# Altium schematic symbol library MCU_Cortex_M4_lib.SchLib: 18 symbols (part 2 of 2)
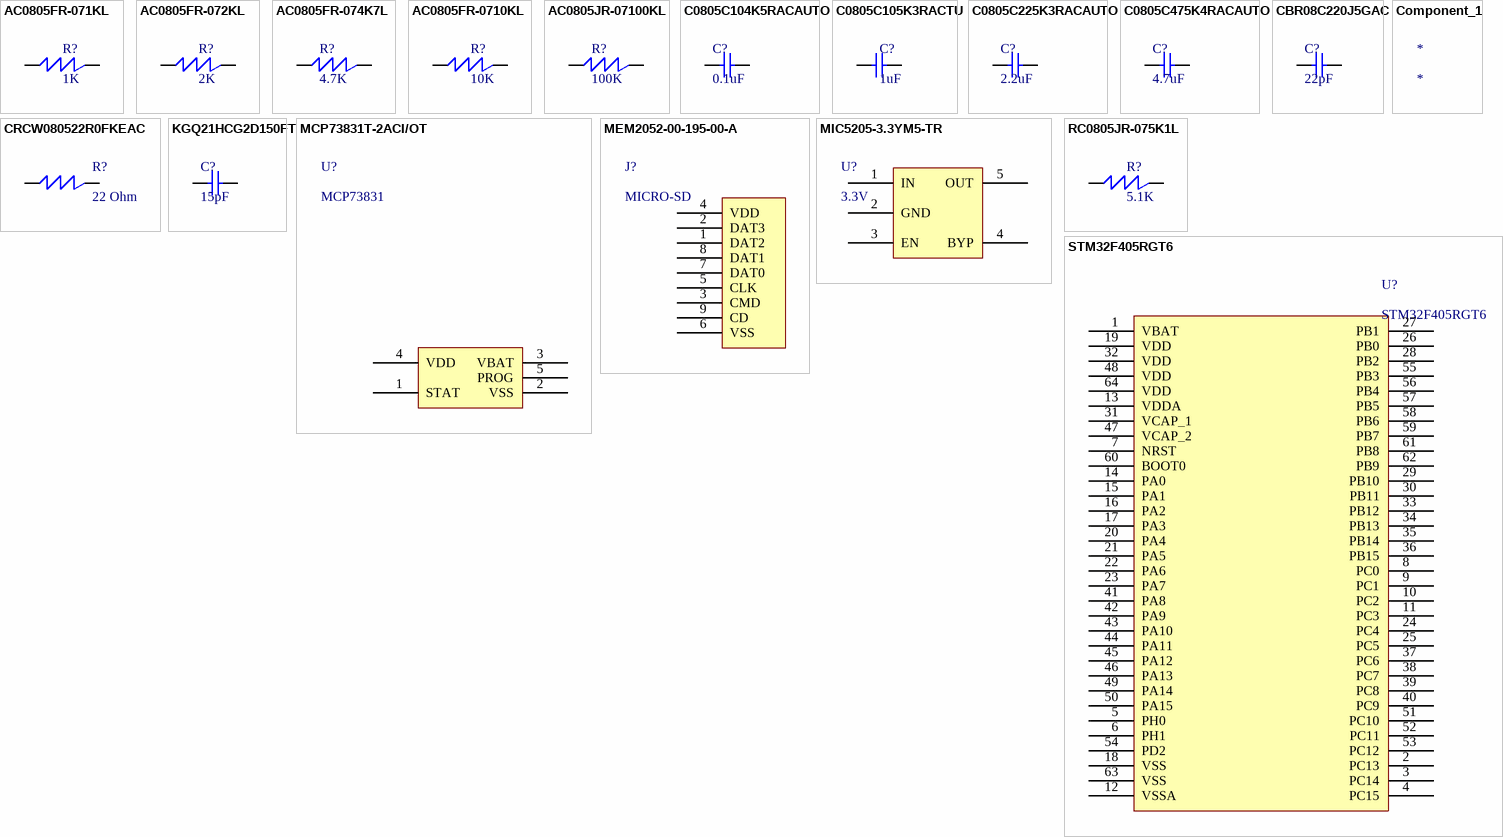
[diagram p1: symbols AC0805FR-071KL to STM32F405RGT6]

## CRCW080522R0FKEAC
designator R?, comment 22 Ohm
Res Thick Film 0805 22 Ohm 1% 0.125W(1/8W) ±100ppm/C Pad SMD T/R; Manufacturer: Vishay; Manufacturer Part Number: CRCW080522R0FKEAC; Power Rating: 125mW; Value: 22Ω; Temperature Coefficient: 100ppm/°C; Working Voltage: 150V; Supplier: Arrow Electronics; Supplier Part Number: CRCW080522R0FKEAC; RoHS: Compliant; Category: Chip SMD Resistors; Stock: 43113; Pricing: 521=0,0125, 1000=0,0113, 5000=0,0068, 10000=0,0054 (USD); Case/Package: 0805; China RoHS: Non-Compliant; Composition: Thick Film; Height: 500µm; Lead Free: Lead Free; Length: 2mm; Lifecycle Status: Production; Max Operating Temperature: 155°C; Min Operating Temperature: -55°C; Mounting Technology: Surface Mount; Number of Terminals: 2; REACH SVHC: Yes; Schedule B: 8533210045, 8533210045|8533210045|8533210045|8533210045|8533210045; Tolerance: 1%; Width: 1.25mm; ComponentLink1URL: https://datasheet.octopart.com:443/CRCW080522R0FKEAC-Vishay-datasheet-175423585.pdf?src-supplier=IHS; ComponentLink1Description: https://datasheet.octopart.com:443/CRCW080522R0FKEAC-Vishay-datasheet-175423585.pdf?src-supplier=IHS; ComponentLink2URL: https://datasheet.octopart.com:443/CRCW080522R0FKEAC-Vishay-datasheet-102570912.pdf?src-supplier=Future+Electronics; ComponentLink2Description: https://datasheet.octopart.com:443/CRCW080522R0FKEAC-Vishay-datasheet-102570912.pdf?src-supplier=Future+Electronics; ComponentLink3URL: https://datasheet.octopart.com:443/CRCW080522R0FKEAC-Vishay-datasheet-62316122.pdf?src-supplier=Future+Electronics; ComponentLink3Description: https://datasheet.octopart.com:443/CRCW080522R0FKEAC-Vishay-datasheet-62316122.pdf?src-supplier=Future+Electronics; ComponentLink4URL: http://sigma.octopart.com:80/rohs_statement/Vishay-company-15.pdf?src-supplier=Compliance+Statements; ComponentLink4Description: http://sigma.octopart.com:80/rohs_statement/Vishay-company-15.pdf?src-supplier=Compliance+Statements
pins: 1, 2

## KGQ21HCG2D150FT
designator C?, comment 15pF
Ceramic Capacitor, Multilayer, Ceramic, 200V, 1% +Tol, 1% -Tol, C0G, 30ppm/Cel TC, 0.000015uF, Surface Mount, 0805; Manufacturer: KYOCERA AVX; Manufacturer Part Number: KGQ21HCG2D150FT; Supplier: DigiKey; Supplier Part Number: 478-KGQ21HCG2D150FTCT-ND; RoHS: Compliant; Category: Ceramic Capacitors; Stock: 657; Pricing: 1=0,55, 10=0,334, 50=0,2502, 100=0,2244, 500=0,18094 (USD); Value: 15pF; Case/Package: 0805; Dielectric: C0G; Dielectric Material: Ceramic; Export Control Classification Number (ECCN) Code: EAR99; Height: 1.15mm; Harmonized Tariff Schedule (HTS) Code: 8532.24.00.20; Introduction Date: 2023-02-08; Length: 2.01mm; Lifecycle Status: Production; Max Operating Temperature: 125°C; Min Operating Temperature: -55°C; Mounting Technology: Surface Mount; Number of Terminals: 2; REACH SVHC: Yes; Tolerance: 1%; Voltage Rating (DC): 200V; Width: 1.25mm; ComponentLink1URL: https://datasheet.octopart.com:443/KGQ21HCG2D150FT-KYOCERA-AVX-datasheet-182064323.pdf?src-supplier=IHS; ComponentLink1Description: https://datasheet.octopart.com:443/KGQ21HCG2D150FT-KYOCERA-AVX-datasheet-182064323.pdf?src-supplier=IHS; ComponentLink2URL: https://datasheet.octopart.com:443/KGQ21HCG2D150FT-KYOCERA-AVX-datasheet-179178381.pdf?src-supplier=TME; ComponentLink2Description: https://datasheet.octopart.com:443/KGQ21HCG2D150FT-KYOCERA-AVX-datasheet-179178381.pdf?src-supplier=TME
pins: 1, 2

## MCP73831T-2ACI/OT
designator U?, comment MCP73831
MCP73831 Series Single-Cell Li-Ion/Li-Polymer Battery Charge Controller SOT-23-5; Manufacturer: Microchip; Manufacturer Part Number: MCP73831T-2ACI/OT; Manufacturer Lifecycle Status: REL; Drain to Source Resistance: 350mΩ; Max Charge Current: 500mA; Max Supply Voltage: 6V; Max Junction Temperature (Tj): 125°C; Max Output Voltage: 4.5V; Max Power Dissipation: 1.54W; Min Output Voltage: 4.168V; Min Supply Voltage: 3.75V; Number of Cells: 1; Output Voltage: 4.2V; Voltage Rating: 4.534V; Supplier: Avnet; Supplier Part Number: MCP73831T-2ACI/OT; RoHS: Compliant; Category: Battery Management; Stock: 21000; Pricing: 3000=0,66216, 6000=0,64901, 12000=0,63969, 24000=0,63063, 48000=0,6125 (USD); Projected EOL Date: 2034-11-03; Ambient Temperature Range High: 85°C; Case/Package: SOT-23; Contact Plating: Tin; Country of Assembly: Thailand; Country of Fabrication: United States of America; Country of Origin: Thailand; Export Control Classification Number (ECCN) Code: EAR99; Height: 1.45mm; HS Code: 8542.39.0090; Harmonized Tariff Schedule (HTS) Code: 8542.39.0060; Introduction Date: 2005-11-03; Length: 3.0988mm; Lifecycle Status: Production; Max Operating Temperature: 85°C; Min Operating Temperature: -40°C; Mounting Technology: Surface Mount; Nominal Supply Voltage: 6V; Number of Channels: 1; Number of Outputs: 1; Pins: 5; Output Current: 500mA; Packaging: Cut Tape; Radiation Hardening: No; REACH SVHC: Unaffected; Schedule B: 8542390000, 8542390000|8542390000|8542390000|8542390000|8542390000; Termination: SMD/SMT; Weight: 200.998119mg; Width: 1.8034mm; ComponentLink1URL: https://datasheet.octopart.com:443/MCP73831T-2ACI-OT-Microchip-datasheet-8814540.pdf?src-supplier=element14+APAC; ComponentLink1Description: https://datasheet.octopart.com:443/MCP73831T-2ACI-OT-Microchip-datasheet-8814540.pdf?src-supplier=element14+APAC; ComponentLink2URL: https://datasheet.octopart.com:443/MCP73831T-2ACI-OT-Microchip-datasheet-145017548.pdf?src-supplier=Microchip; ComponentLink2Description: https://datasheet.octopart.com:443/MCP73831T-2ACI-OT-Microchip-datasheet-145017548.pdf?src-supplier=Microchip; ComponentLink3URL: https://datasheet.octopart.com:443/MCP73831T-2ACI-OT-Microchip-datasheet-34193478.pdf?src-supplier=Farnell; ComponentLink3Description: https://datasheet.octopart.com:443/MCP73831T-2ACI-OT-Microchip-datasheet-34193478.pdf?src-supplier=Farnell; ComponentLink4URL: https://datasheet.octopart.com:443/MCP73831T-2ACI-OT-Microchip-datasheet-16123459.pdf?src-supplier=LKR; ComponentLink4Description: https://datasheet.octopart.com:443/MCP73831T-2ACI-OT-Microchip-datasheet-16123459.pdf?src-supplier=LKR; ComponentLink5URL: https://datasheet.octopart.com:443/MCP73831T-2ACI-OT-Microchip-datasheet-142675560.pdf?src-supplier=TME; ComponentLink5Description: https://datasheet.octopart.com:443/MCP73831T-2ACI-OT-Microchip-datasheet-142675560.pdf?src-supplier=TME; ComponentLink6URL: https://datasheet.octopart.com:443/MCP73831T-2ACI-OT-Microchip-datasheet-158592061.pdf?src-supplier=SHENGYU+ELECTRONICS; ComponentLink6Description: https://datasheet.octopart.com:443/MCP73831T-2ACI-OT-Microchip-datasheet-158592061.pdf?src-supplier=SHENGYU+ELECTRONICS; ComponentLink7URL: https://datasheet.octopart.com/MCP73831T-2ACI-OT-Microchip-datasheet-16593012.pdf; ComponentLink7Description: https://datasheet.octopart.com/MCP73831T-2ACI-OT-Microchip-datasheet-16593012.pdf; ComponentLink8URL: https://datasheet.octopart.com:443/MCP73831T-2ACI-OT-Microchip-datasheet-7127743.pdf?src-supplier=Newark; ComponentLink8Description: https://datasheet.octopart.com:443/MCP73831T-2ACI-OT-Microchip-datasheet-7127743.pdf?src-supplier=Newark; ComponentLink9URL: https://datasheet.octopart.com:443/MCP73831T-2ACIOT-Microchip-datasheet-39874.pdf?src-supplier=RS+(Formerly+Allied+Electronics); ComponentLink9Description: https://datasheet.octopart.com:443/MCP73831T-2ACIOT-Microchip-datasheet-39874.pdf?src-supplier=RS+(Formerly+Allied+Electronics); ComponentLink10URL: http://sigma.octopart.com:80/188449423/materials_sheet/Microchip-MCP73831T-2ACI-OT.pdf?src-supplier=Compliance+Statements; ComponentLink10Description: http://sigma.octopart.com:80/188449423/materials_sheet/Microchip-MCP73831T-2ACI-OT.pdf?src-supplier=Compliance+Statements; ComponentLink11URL: http://sigma.octopart.com:80/192856963/materials_sheet/Microchip-MCP73831T-2ACI-OT.pdf?src-supplier=Compliance+Statements; ComponentLink11Description: http://sigma.octopart.com:80/192856963/materials_sheet/Microchip-MCP73831T-2ACI-OT.pdf?src-supplier=Compliance+Statements; ComponentLink12URL: http://sigma.octopart.com:80/rohs_statement/Microchip-company-71.pdf?src-supplier=Compliance+Statements; ComponentLink12Description: http://sigma.octopart.com:80/rohs_statement/Microchip-company-71.pdf?src-supplier=Compliance+Statements; ComponentLink13URL: http://sigma.octopart.com:80/reach_statement/Microchip-company-70.pdf?src-supplier=Compliance+Statements; ComponentLink13Description: http://sigma.octopart.com:80/reach_statement/Microchip-company-70.pdf?src-supplier=Compliance+Statements; ComponentLink14URL: http://sigma.octopart.com:80/conflict_mineral_statement/Microchip-company-69.pdf?src-supplier=Compliance+Statements; ComponentLink14Description: http://sigma.octopart.com:80/conflict_mineral_statement/Microchip-company-69.pdf?src-supplier=Compliance+Statements; ComponentLink15URL: http://sigma.octopart.com:80/conflict_mineral_statement/Microchip-company-68.pdf?src-supplier=Compliance+Statements; ComponentLink15Description: http://sigma.octopart.com:80/conflict_mineral_statement/Microchip-company-68.pdf?src-supplier=Compliance+Statements
pins: 1 STAT, 2 VSS, 3 VBAT, 4 VDD, 5 PROG

## MEM2052-00-195-00-A
designator J?, comment MICRO-SD
Memory Card Connectors Micro SD Push Push, Normaly open, SMT, 1.95mm profile, No Peg,; Manufacturer: Global Connector Technology; Manufacturer Part Number: MEM2052-00-195-00-A; Contact Resistance: 100mΩ; Current Rating: 500mA; Dielectric Material: Liquid Crystal Polymer; Gender: Female; Insulation Resistance: 1GΩ; Number of Positions: 9; Pitch: 1.0922mm; Supplier: Future Electronics; Supplier Part Number: MEM2052-00-195-00-A; RoHS: Compliant; Category: Card Edge Connectors; Stock: 33000; Pricing: 1000=0,54, 2000=0,535, 3000=0,525 (USD); China RoHS: Compliant; Country of Origin: Mainland China; Export Control Classification Number (ECCN) Code: EAR99; Harmonized Tariff Schedule (HTS) Code: 8536.69.40.40; Insulation Color: Black; Introduction Date: 2022-11-23; Lifecycle Status: Production; Max Operating Temperature: 85°C; Min Operating Temperature: -40°C; Pins: 8; Number of Rows: 1; Orientation: Right Angle; REACH SVHC: Unaffected; Terminal Pitch: 1.1mm; ComponentLink1URL: https://datasheet.octopart.com:443/MEM2052-00-195-00-A-GCT-datasheet-182383403.pdf?src-supplier=IHS; ComponentLink1Description: https://datasheet.octopart.com:443/MEM2052-00-195-00-A-GCT-datasheet-182383403.pdf?src-supplier=IHS; ComponentLink2URL: https://datasheet.octopart.com:443/MEM2052-00-195-00-A-GCT-datasheet-188869006.pdf?src-supplier=TME; ComponentLink2Description: https://datasheet.octopart.com:443/MEM2052-00-195-00-A-GCT-datasheet-188869006.pdf?src-supplier=TME
pins: 1 DAT2, 2 DAT3, 3 CMD, 4 VDD, 5 CLK, 6 VSS, 7 DAT0, 8 DAT1, 9 CD

## MIC5205-3.3YM5-TR
designator U?, comment 3.3V
MIC5205 Series 3.3 V Fixed Output 150 mA Low-Noise LDO Regulator - SOT-23-5; Manufacturer: Microchip; Manufacturer Part Number: MIC5205-3.3YM5-TR; Manufacturer Lifecycle Status: REL; Accuracy: 2%; Dropout Voltage: 165mV; Max Supply Voltage: 16V; Max Junction Temperature (Tj): 125°C; Max Output current: 150mA; Min Input Voltage: 2.5V; Number of Channels: 1; Output Voltage Accuracy: 1%; Polarity: Positive; Power Supply Rejection Ratio (PSRR): 75dB; Supplier: Avnet; Supplier Part Number: MIC5205-3.3YM5-TR; RoHS: Compliant; Category: LDO Voltage Regulators; Stock: 21000; Pricing: 3000=0,33038, 6000=0,3276, 12000=0,32479, 24000=0,32195, 48000=0,3192 (USD); Projected EOL Date: 2034-01-12; Case/Package: SOT-23; Country of Assembly: Malaysia, Thailand; Country of Fabrication: United States of America; Country of Origin: Malaysia, Thailand; Export Control Classification Number (ECCN) Code: EAR99; Height: 1.45mm; HS Code: 8542.39.0090; Harmonized Tariff Schedule (HTS) Code: 8542.39.0060; Lead Free: Lead Free; Length: 2.9mm; Lifecycle Status: Production; Max Operating Temperature: 125°C; Max Output Voltage: 3.3V; Min Operating Temperature: -40°C; Min Output Voltage: 3.3V; Min Supply Voltage: 2.5V; Mounting Technology: Surface Mount; Nominal Output Voltage: 3.3V; Number of Outputs: 1; Pins: 5; Number of Regulators: 1; Output Current: 150mA; Output Type: Fixed; Output Voltage: 3.3V; Packaging: Cut Tape; Radiation Hardening: No; REACH SVHC: Unaffected; Schedule B: 8542390000, 8542390000|8542390000|8542390000|8542390000|8542390000; Termination: SMD/SMT; Width: 1.6mm; ComponentLink1URL: https://datasheet.octopart.com:443/MIC5205-3.3YM5-TR-Microchip-datasheet-175858807.pdf?src-supplier=Microchip; ComponentLink1Description: https://datasheet.octopart.com:443/MIC5205-3.3YM5-TR-Microchip-datasheet-175858807.pdf?src-supplier=Microchip; ComponentLink2URL: https://datasheet.octopart.com:443/MIC5205-3.3YM5-TR-Microchip-datasheet-97430693.pdf?src-supplier=LKR; ComponentLink2Description: https://datasheet.octopart.com:443/MIC5205-3.3YM5-TR-Microchip-datasheet-97430693.pdf?src-supplier=LKR; ComponentLink3URL: https://datasheet.octopart.com:443/MIC5205-3.3YM5-TR-Microchip-datasheet-3438.pdf?src-supplier=SHENGYU+ELECTRONICS; ComponentLink3Description: https://datasheet.octopart.com:443/MIC5205-3.3YM5-TR-Microchip-datasheet-3438.pdf?src-supplier=SHENGYU+ELECTRONICS; ComponentLink4URL: https://datasheet.octopart.com:443/MIC5205-3.3YM5-TR-Microchip-datasheet-142675560.pdf?src-supplier=TME; ComponentLink4Description: https://datasheet.octopart.com:443/MIC5205-3.3YM5-TR-Microchip-datasheet-142675560.pdf?src-supplier=TME; ComponentLink5URL: http://sigma.octopart.com:80/188454461/materials_sheet/Microchip-MIC5205-3.3YM5-TR.pdf?src-supplier=Compliance+Statements; ComponentLink5Description: http://sigma.octopart.com:80/188454461/materials_sheet/Microchip-MIC5205-3.3YM5-TR.pdf?src-supplier=Compliance+Statements; ComponentLink6URL: http://sigma.octopart.com:80/rohs_statement/Microchip-company-71.pdf?src-supplier=Compliance+Statements; ComponentLink6Description: http://sigma.octopart.com:80/rohs_statement/Microchip-company-71.pdf?src-supplier=Compliance+Statements; ComponentLink7URL: http://sigma.octopart.com:80/reach_statement/Microchip-company-70.pdf?src-supplier=Compliance+Statements; ComponentLink7Description: http://sigma.octopart.com:80/reach_statement/Microchip-company-70.pdf?src-supplier=Compliance+Statements; ComponentLink8URL: http://sigma.octopart.com:80/conflict_mineral_statement/Microchip-company-69.pdf?src-supplier=Compliance+Statements; ComponentLink8Description: http://sigma.octopart.com:80/conflict_mineral_statement/Microchip-company-69.pdf?src-supplier=Compliance+Statements; ComponentLink9URL: http://sigma.octopart.com:80/conflict_mineral_statement/Microchip-company-68.pdf?src-supplier=Compliance+Statements; ComponentLink9Description: http://sigma.octopart.com:80/conflict_mineral_statement/Microchip-company-68.pdf?src-supplier=Compliance+Statements
pins: 1 IN, 2 GND, 3 EN, 4 BYP, 5 OUT

## RC0805JR-075K1L
designator R?, comment 5.1K
Res Thick Film 0805 5.1K Ohm 5% 0.125W(1/8W) ±100ppm/C Pad SMD T/R; Manufacturer: Yageo Group; Manufacturer Part Number: RC0805JR-075K1L; Manufacturer Package Identifier: 0805 (2012 metric); Max Power Dissipation: 125mW; Value: 5.1kΩ; Temperature Coefficient: 100ppm/°C; Voltage Rating: 150V; Supplier: Future Electronics; Supplier Part Number: RC0805JR-075K1L; RoHS: Compliant; Category: Chip SMD Resistors; Stock: 40000; Pricing: 5000=0,0039, 20000=0,0037, 100000=0,0035, 200000=0,0035, 625000=0,0033 (USD); Case/Package: 0805; Case Code (Imperial): 0805; China RoHS: Non-Compliant; Composition: Thick Film; Contact Plating: Lead, Tin; Country of Origin: Mainland China, Taiwan; Depth: 1.25mm; Export Control Classification Number (ECCN) Code: EAR99; Features: Moisture Resistant; Height: 500µm; Harmonized Tariff Schedule (HTS) Code: 8533.21.00.30; Introduction Date: 2004-09-22; Lead Free: Lead Free; Length: 2mm; Lifecycle Status: Production; Max Operating Temperature: 155°C; Military Standard: Not; Min Operating Temperature: -55°C; Mounting Technology: Surface Mount; Pins: 2; Number of Terminals: 2; Number of Terminations: 2; Power Rating: 125mW; Radiation Hardening: No; REACH SVHC: Yes; Schedule B: 8533210045, 8533210045|8533210045, 8533210045|8533210045|8533210045, 8533210045|8533210045|8533210045|8533210045; Termination: SMD/SMT; Tolerance: 5%; Voltage Rating (DC): 150V; Weight: 5.499807mg; Width: 1.25mm; Working Voltage: 150V; ComponentLink1URL: https://datasheet.octopart.com:443/RC0805JR-075K1L-Yageo-datasheet-175887523.pdf?src-supplier=Newark; ComponentLink1Description: https://datasheet.octopart.com:443/RC0805JR-075K1L-Yageo-datasheet-175887523.pdf?src-supplier=Newark; ComponentLink2URL: https://datasheet.octopart.com:443/RC0805JR-075K1L-Yageo-datasheet-8330313.pdf?src-supplier=element14+APAC; ComponentLink2Description: https://datasheet.octopart.com:443/RC0805JR-075K1L-Yageo-datasheet-8330313.pdf?src-supplier=element14+APAC; ComponentLink3URL: https://datasheet.octopart.com:443/RC0805JR-075K1L-Yageo-datasheet-176638170.pdf?src-supplier=Future+Electronics; ComponentLink3Description: https://datasheet.octopart.com:443/RC0805JR-075K1L-Yageo-datasheet-176638170.pdf?src-supplier=Future+Electronics; ComponentLink4URL: https://datasheet.octopart.com:443/RC0805JR-075K1L-Yageo-datasheet-164759695.pdf?src-supplier=Future+Electronics; ComponentLink4Description: https://datasheet.octopart.com:443/RC0805JR-075K1L-Yageo-datasheet-164759695.pdf?src-supplier=Future+Electronics; ComponentLink5URL: https://datasheet.octopart.com:443/RC0805JR-075K1L-Yageo-datasheet-12592811.pdf?src-supplier=Future+Electronics; ComponentLink5Description: https://datasheet.octopart.com:443/RC0805JR-075K1L-Yageo-datasheet-12592811.pdf?src-supplier=Future+Electronics; ComponentLink6URL: https://datasheet.octopart.com:443/RC0805JR-075K1L-Yageo-datasheet-8324252.pdf?src-supplier=Future+Electronics; ComponentLink6Description: https://datasheet.octopart.com:443/RC0805JR-075K1L-Yageo-datasheet-8324252.pdf?src-supplier=Future+Electronics; ComponentLink7URL: https://datasheet.octopart.com:443/RC0805JR-075K1L-Yageo-datasheet-62067350.pdf?src-supplier=Farnell; ComponentLink7Description: https://datasheet.octopart.com:443/RC0805JR-075K1L-Yageo-datasheet-62067350.pdf?src-supplier=Farnell; ComponentLink8URL: https://datasheet.octopart.com/RC0805JR-075K1L-Yageo-datasheet-73766026.pdf; ComponentLink8Description: https://datasheet.octopart.com/RC0805JR-075K1L-Yageo-datasheet-73766026.pdf; ComponentLink9URL: https://datasheet.octopart.com:443/RC0805JR-075K1L-Yageo-datasheet-118657.pdf?src-supplier=DigiKey; ComponentLink9Description: https://datasheet.octopart.com:443/RC0805JR-075K1L-Yageo-datasheet-118657.pdf?src-supplier=DigiKey; ComponentLink10URL: http://sigma.octopart.com:80/conflict_mineral_statement/Yageo-company-3.pdf?src-supplier=Compliance+Statements; ComponentLink10Description: http://sigma.octopart.com:80/conflict_mineral_statement/Yageo-company-3.pdf?src-supplier=Compliance+Statements; ComponentLink11URL: http://sigma.octopart.com:80/rohs_statement/Yageo-company-2.pdf?src-supplier=Compliance+Statements; ComponentLink11Description: http://sigma.octopart.com:80/rohs_statement/Yageo-company-2.pdf?src-supplier=Compliance+Statements
pins: 1, 2

## STM32F405RGT6
designator U?
MCU 32-bit STM32F ARM Cortex M4F RISC 1024KB Flash 2.5V/3.3V 64-Pin LQFP Tray; Manufacturer: STMicroelectronics; ADC Channels (Resolution): 16-Ch 12-Bit; Core Architecture: ARM Cortex-M4; DAC Channels (Resolution): 2-Ch 12-Bit; Data Bus Width: 32b; EEPROM Memory Size: 0B; Flash Memory Size: 1MB; Frequency: 168MHz; Interface: CAN, I2C, I2S, IrDA, SPI, UART, USART, USB; Max Junction Temperature (Tj): 105°C; Max Supply Current: 109mA; Max Supply Voltage: 3.6V; Min Supply Voltage: 1.8V; Nominal Supply Current: 1.7µA; Nominal Supply Voltage (DC): 3.3V; Number of A/D Converters: 3; Number of ADC Channels: 16; Number of D/A Converters: 2; Number of I/Os: 8; Number of Programmable I/O: 51; Number of Timers/Counters: 15; Number of USART Channels: 4; Oscillator Type: Internal; Peripherals: POR, RTC; RAM Size: 196kB; Watchdog Timer: Yes; Supplier: Arrow Electronics; Supplier Part Number: STM32F405RGT6; Manufacturer Part Number: STM32F405RGT6; RoHS: Compliant; Category: Microcontrollers; Stock: 1078; Pricing: 1=8,278, 10=6,795 (USD); Ambient Temperature Range High: 85°C; Case/Package: LFQFP; China RoHS: Compliant; Country of Origin: Mainland China, Malaysia, Taiwan; Export Control Classification Number (ECCN) Code: 3A991.A.2; Height: 1.6mm; Height - Seated (Max): 1.6mm; Harmonized Tariff Schedule (HTS) Code: 8542.31.00.25; Introduction Date: 2013-06-04; Lead Free: Lead Free; Length: 10mm; Lifecycle Status: Production; Clock Frequency: 168MHz; Max Operating Temperature: 85°C; Memory Size: 1MB; Memory Format: FLASH; Min Operating Temperature: -40°C; Number of Channels: 16; Number of I2C Channels: 3; Number of Interrupts: 16; Pins: 64; Number of PWM Channels: 2; Number of SPI Channels: 3; Number of Terminals: 64; Number of UART Channels: 2; Number of USB Channels: 2; Radiation Hardening: No; REACH SVHC: Unaffected; Schedule B: 8542310000, 8542310000|8542310000|8542310000|8542310000|8542310000; Temperature Grade: Industrial; Terminal Pitch: 500µm; Width: 10mm; ComponentLink1URL: https://datasheet.octopart.com:443/STM32F405RGT6-STMicroelectronics-datasheet-181247466.pdf?src-supplier=IHS; ComponentLink1Description: https://datasheet.octopart.com:443/STM32F405RGT6-STMicroelectronics-datasheet-181247466.pdf?src-supplier=IHS; ComponentLink2URL: https://datasheet.octopart.com:443/STM32F405RGT6-STMicroelectronics-datasheet-12357803.pdf?src-supplier=Upverter; ComponentLink2Description: https://datasheet.octopart.com:443/STM32F405RGT6-STMicroelectronics-datasheet-12357803.pdf?src-supplier=Upverter; ComponentLink3URL: https://datasheet.octopart.com:443/STM32F405RGT6-STMicroelectronics-datasheet-10836202.pdf?src-supplier=Upverter; ComponentLink3Description: https://datasheet.octopart.com:443/STM32F405RGT6-STMicroelectronics-datasheet-10836202.pdf?src-supplier=Upverter; ComponentLink4URL: https://datasheet.octopart.com:443/STM32F405RGT6-STMicroelectronics-datasheet-68300831.pdf?src-supplier=ODG+(Origin+Data+Global); ComponentLink4Description: https://datasheet.octopart.com:443/STM32F405RGT6-STMicroelectronics-datasheet-68300831.pdf?src-supplier=ODG+(Origin+Data+Global); ComponentLink5URL: https://datasheet.octopart.com:443/STM32F405RGT6-STMicroelectronics-datasheet-62336716.pdf?src-supplier=STMicroelectronics; ComponentLink5Description: https://datasheet.octopart.com:443/STM32F405RGT6-STMicroelectronics-datasheet-62336716.pdf?src-supplier=STMicroelectronics; ComponentLink6URL: https://datasheet.octopart.com:443/STM32F405RGT6-STMicroelectronics-datasheet-159624841.pdf?src-supplier=Burklin+Elektronik; ComponentLink6Description: https://datasheet.octopart.com:443/STM32F405RGT6-STMicroelectronics-datasheet-159624841.pdf?src-supplier=Burklin+Elektronik; ComponentLink7URL: https://datasheet.octopart.com:443/STM32F405RGT6-STMicroelectronics-datasheet-41340394.pdf?src-supplier=TME; ComponentLink7Description: https://datasheet.octopart.com:443/STM32F405RGT6-STMicroelectronics-datasheet-41340394.pdf?src-supplier=TME; ComponentLink8URL: https://datasheet.octopart.com:443/STM32F405RGT6-STMicroelectronics-datasheet-16486449.pdf?src-supplier=Newark; ComponentLink8Description: https://datasheet.octopart.com:443/STM32F405RGT6-STMicroelectronics-datasheet-16486449.pdf?src-supplier=Newark; ComponentLink9URL: https://datasheet.octopart.com:443/STM32F405RGT6-STMicroelectronics-datasheet-14878676.pdf?src-supplier=Farnell; ComponentLink9Description: https://datasheet.octopart.com:443/STM32F405RGT6-STMicroelectronics-datasheet-14878676.pdf?src-supplier=Farnell; ComponentLink10URL: https://datasheet.octopart.com:443/STM32F405RGT6-STMicroelectronics-datasheet-10709433.pdf?src-supplier=Farnell; ComponentLink10Description: https://datasheet.octopart.com:443/STM32F405RGT6-STMicroelectronics-datasheet-10709433.pdf?src-supplier=Farnell
pins: 1 VBAT, 2 PC13, 3 PC14, 4 PC15, 5 PH0, 6 PH1, 7 NRST, 8 PC0, 9 PC1, 10 PC2, 11 PC3, 12 VSSA, 13 VDDA, 14 PA0, 15 PA1, 16 PA2, 17 PA3, 18 VSS, 19 VDD, 20 PA4, 21 PA5, 22 PA6, 23 PA7, 24 PC4, 25 PC5, 26 PB0, 27 PB1, 28 PB2, 29 PB10, 30 PB11, 31 VCAP_1, 32 VDD, 33 PB12, 34 PB13, 35 PB14, 36 PB15, 37 PC6, 38 PC7, 39 PC8, 40 PC9, 41 PA8, 42 PA9, 43 PA10, 44 PA11, 45 PA12, 46 PA13, 47 VCAP_2, 48 VDD, 49 PA14, 50 PA15, 51 PC10, 52 PC11, 53 PC12, 54 PD2, 55 PB3, 56 PB4, 57 PB5, 58 PB6, 59 PB7, 60 BOOT0, 61 PB8, 62 PB9, 63 VSS, 64 VDD